# EAGLE library part APDS-9008 (library EricB_custom)
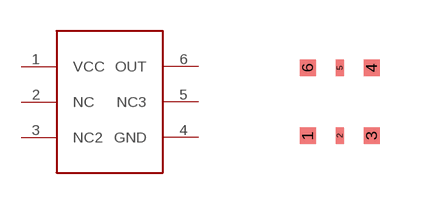
[diagram p16: symbol with the pads of APDS-9008; footprint APDS-9008]

Designator prefix -

## APDS-9008  [APDS-9008]
1  VCC
2  NC
3  NC2
4  GND
5  NC3
6  OUT

## Footprint APDS-9008 (pad centres in mm)
smd 0.4 x 0.4: 1 -0.8,-0.85; 3 0.8,-0.85; 4 0.8,0.85; 6 -0.8,0.85
smd 0.2 x 0.4: 2 0,-0.85; 5 0,0.85